# Altium schematic symbol library LM4120.SchLib: 1 symbol
Pins are listed as number, name and electrical type; pins without a type are passive.

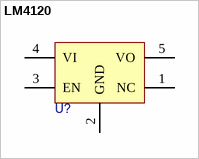
[diagram p0: symbol LM4120]

## LM4120
designator U?  (value not drawn)
pins: 1 NC, 2 GND, 3 EN, 4 VI, 5 VO